# Altium footprint library Connector.PcbLib: 116 footprints (part 6 of 8)
Each footprint in its own frame and in the unit in brackets; x right, y up, seen from the top. Pads: shape width x height; smd on the part's side, far side on the other; paste and mask are expansions set on the pad; w line width, h text height; cw(c..) or ccw(c..) is an arc to the next point about the centre after c.
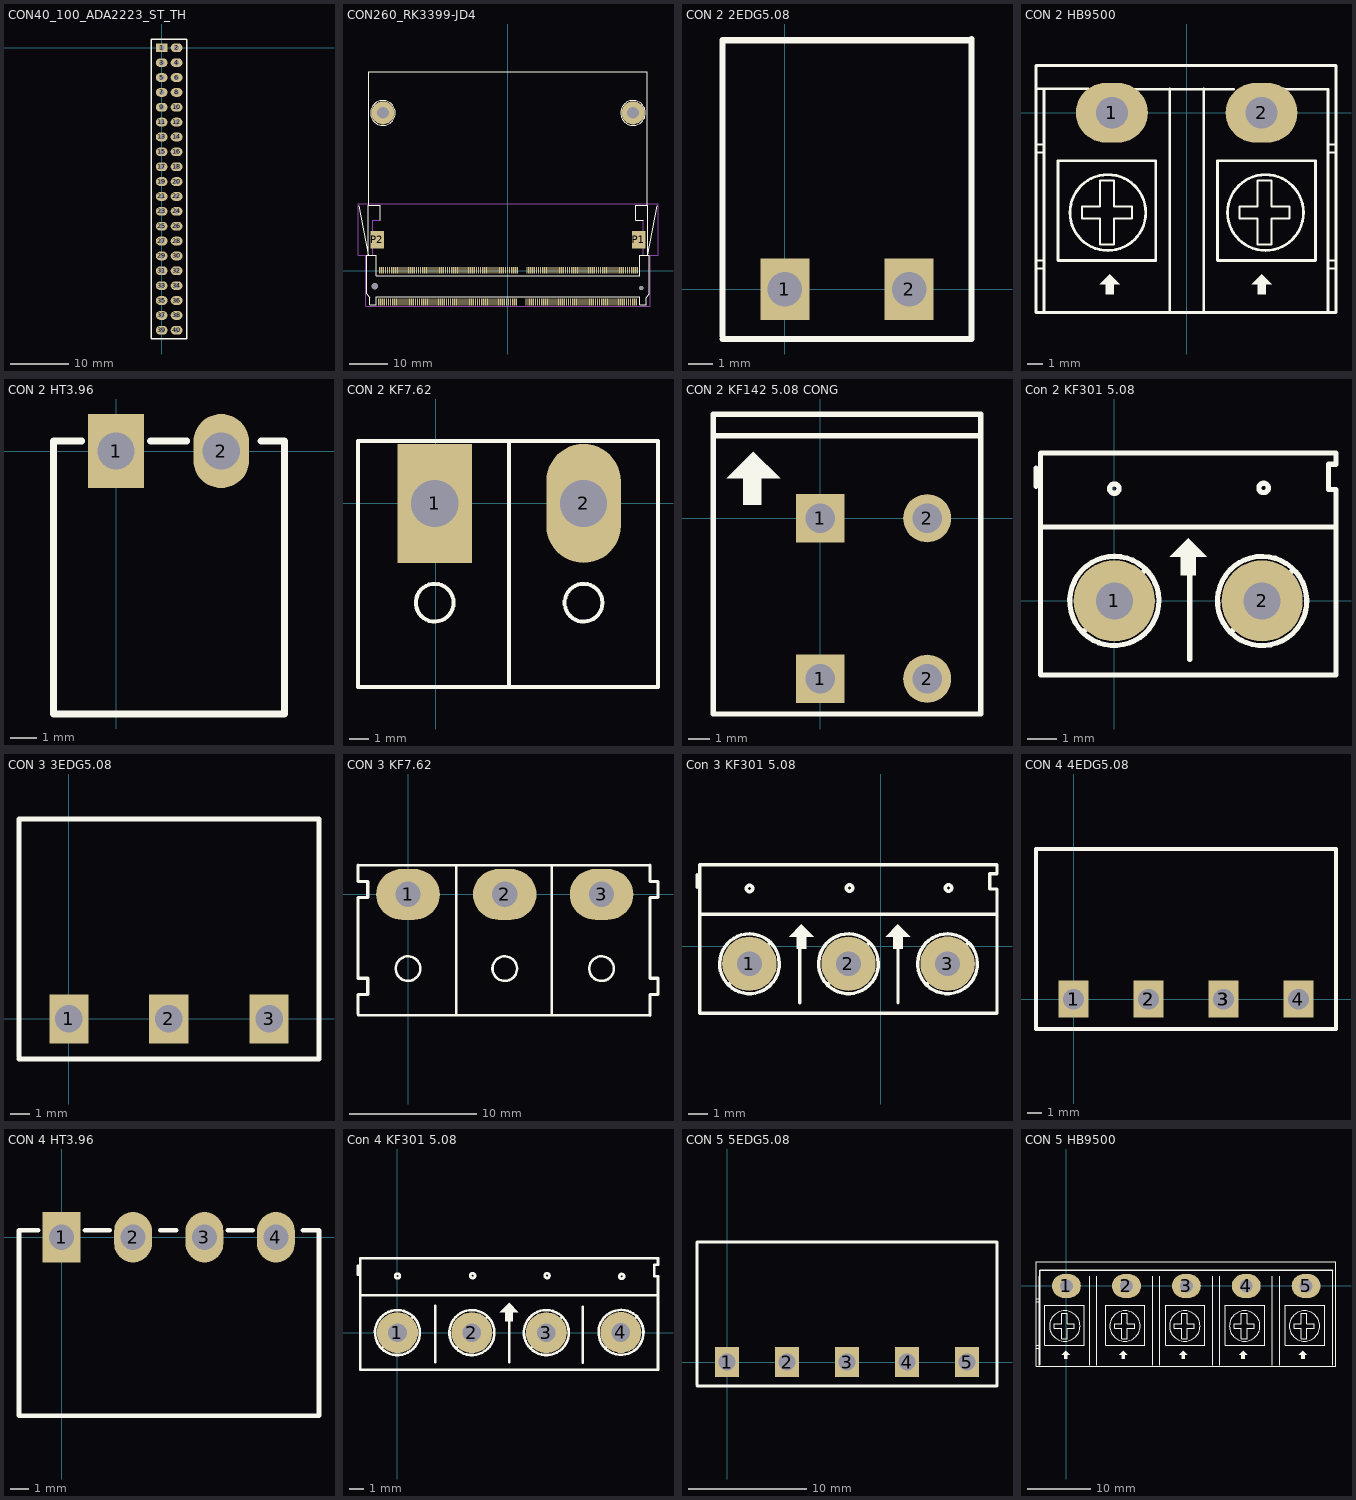
[diagram p5: the footprints below, top view; thin cyan lines are the x and y axes]

## CON40_100_ADA2223_ST_TH [mm]
height 11.1
pads (40):
  rect 2x1.5 hole 0.9: 1(0,0)
  oval 2x1.5 hole 0.9: 2(2.54,0) 3(0,-2.54) 4(2.54,-2.54) 5(0,-5.08) 6(2.54,-5.08) 7(0,-7.62) 8(2.54,-7.62) 9(0,-10.16) 10(2.54,-10.16) 11(0,-12.7) 12(2.54,-12.7) 13(0,-15.24) 14(2.54,-15.24) 15(0,-17.78) 16(2.54,-17.78) 17(0,-20.32) 18(2.54,-20.32) 19(0,-22.86) 20(2.54,-22.86) 21(0,-25.4) 22(2.54,-25.4) 23(0,-27.94) 24(2.54,-27.94) 25(0,-30.48) 26(2.54,-30.48) 27(0,-33.02) 28(2.54,-33.02) 29(0,-35.56) 30(2.54,-35.56) 31(0,-38.1) 32(2.54,-38.1) 33(0,-40.64) 34(2.54,-40.64) 35(0,-43.18) 36(2.54,-43.18) 37(0,-45.72) 38(2.54,-45.72) 39(0,-48.26) 40(2.54,-48.26)
Top Overlay:
  lines w0.254: -1.75,-49.75 -1.75,1.5 4.25,1.5 4.25,-49.75 -1.75,-49.75
3D body "User Library-Header 2x20 2_54mm.step": height 2.01, standoff -9.09, extent -1.25,-49.55 3.75,1.55

## CON260_RK3399-JD4 [mm] "DDR4-260Pin"
height 9.2
pads (266):
  rect 0.3x1.75 smd: 1(-33.375,-8.05) 2(-33.125,0.15) 3(-32.875,-8.05) 4(-32.625,0.15) 5(-32.375,-8.05) 6(-32.125,0.15) 7(-31.875,-8.05) 8(-31.625,0.15) 9(-31.375,-8.05) 10(-31.125,0.15) 11(-30.875,-8.05) 12(-30.625,0.15) 13(-30.375,-8.05) 14(-30.125,0.15) 15(-29.875,-8.05) 16(-29.625,0.15) 17(-29.375,-8.05) 18(-29.125,0.15) 19(-28.875,-8.05) 20(-28.625,0.15) 21(-28.375,-8.05) 22(-28.125,0.15) 23(-27.875,-8.05) 24(-27.625,0.15) 25(-27.375,-8.05) 26(-27.125,0.15) 27(-26.875,-8.05) 28(-26.625,0.15) 29(-26.375,-8.05) 30(-26.125,0.15) 31(-25.875,-8.05) 32(-25.625,0.15) 33(-25.375,-8.05) 34(-25.125,0.15) 35(-24.875,-8.05) 36(-24.625,0.15) 37(-24.375,-8.05) 38(-24.125,0.15) 39(-23.875,-8.05) 40(-23.625,0.15) 41(-23.375,-8.05) 42(-23.125,0.15) 43(-22.875,-8.05) 44(-22.625,0.15) 45(-22.375,-8.05) 46(-22.125,0.15) 47(-21.875,-8.05) 48(-21.625,0.15) 49(-21.375,-8.05) 50(-21.125,0.15) 51(-20.875,-8.05) 52(-20.625,0.15) 53(-20.375,-8.05) 54(-20.125,0.15) 55(-19.875,-8.05) 56(-19.625,0.15) 57(-19.375,-8.05) 58(-19.125,0.15) 59(-18.875,-8.05) 60(-18.625,0.15) 61(-18.375,-8.05) 62(-18.125,0.15) 63(-17.875,-8.05) 64(-17.625,0.15) 65(-17.375,-8.05) 66(-17.125,0.15) 67(-16.875,-8.05) 68(-16.625,0.15) 69(-16.375,-8.05) 70(-16.125,0.15) 71(-15.875,-8.05) 72(-15.625,0.15) 73(-15.375,-8.05) 74(-15.125,0.15) 75(-14.875,-8.05) 76(-14.625,0.15) 77(-14.375,-8.05) 78(-14.125,0.15) 79(-13.875,-8.05) 80(-13.625,0.15) 81(-13.375,-8.05) 82(-13.125,0.15) 83(-12.875,-8.05) 84(-12.625,0.15) 85(-12.375,-8.05) 86(-12.125,0.15) 87(-11.875,-8.05) 88(-11.625,0.15) 89(-11.375,-8.05) 90(-11.125,0.15) 91(-10.875,-8.05) 92(-10.625,0.15) 93(-10.375,-8.05) 94(-10.125,0.15) 95(-9.875,-8.05) 96(-9.625,0.15) 97(-9.375,-8.05) 98(-9.125,0.15) 99(-8.875,-8.05) 100(-8.625,0.15) 101(-8.375,-8.05) 102(-8.125,0.15) 103(-7.875,-8.05) 104(-7.625,0.15) 105(-7.375,-8.05) 106(-7.125,0.15) 107(-6.875,-8.05) 108(-6.625,0.15) 109(-6.375,-8.05) 110(-6.125,0.15) 111(-5.875,-8.05) 112(-5.625,0.15) 113(-5.375,-8.05) 114(-5.125,0.15) 115(-4.875,-8.05) 116(-4.625,0.15) 117(-4.375,-8.05) 118(-4.125,0.15) 119(-3.875,-8.05) 120(-3.625,0.15) 121(-3.375,-8.05) 122(-3.125,0.15) 123(-2.875,-8.05) 124(-2.625,0.15) 125(-2.375,-8.05) 126(-2.125,0.15) 127(-1.875,-8.05) 128(-1.625,0.15) 129(-1.375,-8.05) 130(-1.125,0.15) 131(-0.875,-8.05) 132(-0.625,0.15) 133(-0.375,-8.05) 134(-0.125,0.15) 135(0.125,-8.05) 136(0.375,0.15) 137(0.625,-8.05) 138(0.875,0.15) 139(1.125,-8.05) 140(1.375,0.15) 141(1.625,-8.05) 142(1.875,0.15) 143(2.125,-8.05) 144(2.375,0.15) 145(4.625,-8.05) 146(4.875,0.15) 147(5.125,-8.05) 148(5.375,0.15) 149(5.625,-8.05) 150(5.875,0.15) 151(6.125,-8.05) 152(6.375,0.15) 153(6.625,-8.05) 154(6.875,0.15) 155(7.125,-8.05) 156(7.375,0.15) 157(7.625,-8.05) 158(7.875,0.15) 159(8.125,-8.05) 160(8.375,0.15) 161(8.625,-8.05) 162(8.875,0.15) 163(9.125,-8.05) 164(9.375,0.15) 165(9.625,-8.05) 166(9.875,0.15) 167(10.125,-8.05) 168(10.375,0.15) 169(10.625,-8.05) 170(10.875,0.15) 171(11.125,-8.05) 172(11.375,0.15) 173(11.625,-8.05) 174(11.875,0.15) 175(12.125,-8.05) 176(12.375,0.15) 177(12.625,-8.05) 178(12.875,0.15) 179(13.125,-8.05) 180(13.375,0.15) 181(13.625,-8.05) 182(13.875,0.15) 183(14.125,-8.05) 184(14.375,0.15) 185(14.625,-8.05) 186(14.875,0.15) 187(15.125,-8.05) 188(15.375,0.15) 189(15.625,-8.05) 190(15.875,0.15) 191(16.125,-8.05) 192(16.375,0.15) 193(16.625,-8.05) 194(16.875,0.15) 195(17.125,-8.05) 196(17.375,0.15) 197(17.625,-8.05) 198(17.875,0.15) 199(18.125,-8.05) 200(18.375,0.15) 201(18.625,-8.05) 202(18.875,0.15) 203(19.125,-8.05) 204(19.375,0.15) 205(19.625,-8.05) 206(19.875,0.15) 207(20.125,-8.05) 208(20.375,0.15) 209(20.625,-8.05) 210(20.875,0.15) 211(21.125,-8.05) 212(21.375,0.15) 213(21.625,-8.05) 214(21.875,0.15) 215(22.125,-8.05) 216(22.375,0.15) 217(22.625,-8.05) 218(22.875,0.15) 219(23.125,-8.05) 220(23.375,0.15) 221(23.625,-8.05) 222(23.875,0.15) 223(24.125,-8.05) 224(24.375,0.15) 225(24.625,-8.05) 226(24.875,0.15) 227(25.125,-8.05) 228(25.375,0.15) 229(25.625,-8.05) 230(25.875,0.15) 231(26.125,-8.05) 232(26.375,0.15) 233(26.625,-8.05) 234(26.875,0.15) 235(27.125,-8.05) 236(27.375,0.15) 237(27.625,-8.05) 238(27.875,0.15) 239(28.125,-8.05) 240(28.375,0.15) 241(28.625,-8.05) 242(28.875,0.15) 243(29.125,-8.05) 244(29.375,0.15) 245(29.625,-8.05) 246(29.875,0.15) 247(30.125,-8.05) 248(30.375,0.15) 249(30.625,-8.05) 250(30.875,0.15) 251(31.125,-8.05) 252(31.375,0.15) 253(31.625,-8.05) 254(31.875,0.15) 255(32.125,-8.05) 256(32.375,0.15) 257(32.625,-8.05) 258(32.875,0.15) 259(33.125,-8.05) 260(33.375,0.15)
  round 1.6 hole 1.6 unplated: None(-34.4,-3.95)
  round 1.1 hole 1.1 unplated: None(34.4,-4.45)
  rect 3.5x4.6 smd: P1(33.8,8.05) P2(-33.8,8.05)
  round 6 hole 3: ""(-32.3,40.8) ""(32.3,40.8)
Top Overlay:
  circle w0.254: c32.3,40.8 r3.2
  circle w0.254: c-32.3,40.8 r3.2
  lines w0.2: -38.5,16.8 -36.05,4.05 ; -33.05,13.05 -33.05,16.98 -36.05,16.98 -36.05,4.05 ; 35,13.05 33.05,13.05 33.05,16.98 36.05,16.98 36.05,4.05 ; 38.5,16.8 36.05,4.05 ; -36.05,4.05 -36.55,4.05 -36.55,-5.95 -35.7,-6.95 -35.7,-8.72 -34,-8.72 -34,-6.65 34,-6.65 34,-8.72 35.7,-8.72 35.7,-6.95 36.55,-5.95 36.55,4.05 36.05,4.05 ; -36.05,4.05 -34,4.05 -34,-1.25 34,-1.25 34,4.05 36.05,4.05
  lines w0.254: -36,16.98 -36,20 -36,29.4 -36,39.5 -36,51.5 -31.1,51.5 -21.9,51.5 2.6,51.5 11.4,51.5 19.6,51.5 28,51.5 36,51.5 36,48 36,42.4 36,36.8 36,31.8 36,26 36,18.2 36,17.08
Mechanical 4:
  lines w0.2: -35,13.05 -33,13.05 -35,13.05 ; -35,13.05 -35,4.05 -35,13.05 ; 35,4.05 35,13.05 35,4.05
Mechanical 16:
  lines w0.05: -38.75,4.05 -38.75,17.3 38.75,17.3 38.75,4.05 36.8,4.05 36.8,-9.2 -36.8,-9.2 -36.8,4.05 -38.75,4.05
3D body: height 7.62, standoff 0, extent 30.7,39.203 33.9,42.397
3D body "User Library-00003870_TEcon_2309409-1.STEP": height 5.32, standoff -0.23, extent -36.5,-8.9 36.5,16.95
3D body "core-3399-jd4_3d_model.stp": height 6.1, standoff 1.8, extent -34.8,-4.2 34.8,50.804
3D body: height 7.62, standoff 0, extent -33.9,39.203 -30.7,42.397

## CON 2 2EDG5.08 [mm]
pads (2):
  rect 2x2.5 hole 1.4: 1(0,0) 2(5.08,0)
Top Overlay:
  lines w0.254: -2.54,-2.032 7.62,-2.032 7.62,10.211 ; -2.54,-1.905 -2.54,10.173 ; -2.54,10.16 7.62,10.16
3D body "User Library-BigHeader 5EHDR_1P.step": height 3.15, standoff -9.32, extent -2.5,-1.75 2.5,10.25
3D body "User Library-BigHeader 5EHDR_1P.step": height 3.15, standoff -9.32, extent 2.58,-1.75 7.58,10.25

## CON 2 HB9500 [mil] "Header 2: 300V-20A, 2 pin, hight 300mil, Pin to Pin 400, Colour Green"
height 300
pads (2):
  oval 180x150 hole 80: 1(-187.5,0) 2(187.5,0)
Top Overlay:
  circle w7: c-197.5,-250 r95
  circle w7: c197.5,-250 r95
  region: -192.5,-405 -217.5,-430 -202.5,-430 -202.5,-455 -182.5,-455 -182.5,-430 -167.5,-430
  region: 187.5,-405 162.5,-430 177.5,-430 177.5,-455 197.5,-455 197.5,-430 212.5,-430
  lines w5: -375,-390 -360,-390 ; -375,-370 -360,-370 ; -375,-100 -360,-100 ; -375,-80 -360,-80 ; 355,-390 370,-390 ; 355,-370 370,-370 ; 355,-100 370,-100 ; 355,-80 370,-80 ; -262.5,-265 -217.5,-265 -217.5,-330 -182.5,-330 -182.5,-265 -137.5,-265 -137.5,-235 -182.5,-235 -182.5,-170 -217.5,-170 -217.5,-235 -262.5,-235 -262.5,-265 ; 132.5,-265 177.5,-265 177.5,-330 212.5,-330 212.5,-265 257.5,-265 257.5,-235 212.5,-235 212.5,-170 177.5,-170 177.5,-235 132.5,-235 132.5,-265
  lines w7: -377.5,60 -247.5,60 ; -357.5,-495 -357.5,60 ; -131.89,59.06 118.11,59.06 ; -42.5,-495 -42.5,60 ; 42.5,-495 42.5,60 ; 242.5,60 242.5,59.13 354.33,59.04 354.33,-495 ; -377.5,-500 374.02,-500 374.02,118.11 -377.5,118.11 -377.5,-500 ; -322.5,-370 -322.5,-120 -77.5,-120 -77.5,-370 -322.5,-370 ; 77.5,-370 77.5,-120 322.5,-120 322.5,-370 77.5,-370
3D body "CON 2 HB.stp": height 500.6, standoff -199.4, extent -366,-485 345,115

## CON 2 HT3.96 [mm]
pads (2):
  rect 2.1x2.794 hole 1.4: 1(0,0)
  oval 2.1x2.794 hole 1.4: 2(3.96,0)
Top Overlay:
  lines w0.254: -1.295,0.381 -2.286,0.381 -2.362,0.381 -2.362,-9.906 6.35,-9.906 6.35,0.381 5.461,0.381 ; 1.295,0.381 2.667,0.381
3D body "Con 2 KF396.stp": height 7.02, standoff 0.02, extent -1.968,-10 6.032,0

## CON 2 KF7.62 [mil]
pads (2):
  rect 150x240 hole 95: 1(-2,0)
  oval 150x240 hole 95: 2(298,0)
Top Overlay:
  circle w8: c298,-200 r38.08
  circle w8: c-2,-200 r38.08
  lines w7.87: 148,-368.06 148,126 ; -156.54,-370 448,-370 448,126 -156.54,126 -156.54,-339.27 -156.54,-370
3D body "Con 2 KF7.62.step": height 492.61, standoff -245.58, extent -152,-370 448,122.12

## CON 2 KF142 5.08 CONG [mil]
pads (4):
  rect 90x90 hole 55.12: 1(0,-300.39) 1(0,0)
  round 90 hole 55.12: 2(200,-300.39) 2(200,0)
Top Overlay:
  rectangle: -145,24.61 -110,74.61
  region: -175,74.61 -125,124.61 -75,74.61
  lines w10: -200,64.61 -200,154.61 ; -200,65.61 -200,-366.39 300,-366.39 ; 300,-365 300,195 ; 300,154.61 -200,154.61 ; 300,194.61 -200,194.61 -200,154.61
3D body "Terminal Blocks Fixed SPRING 2PIN CONG.stp": height 520.69, standoff -137.32, extent -205,-375.35 293.43,185.35

## Con 2 KF301 5.08 [mil]
pads (2):
  round 110 hole 50: 1(0,0) 2(200,0)
Top Overlay:
  circle w7: c202,153 r6.4
  circle w7: c0,152 r6.4
  region: 100,85 75,60 90,60 90,35 110,35 110,60 125,60
  lines w7: -106,155 -106,180 ; -100,100 300,100 ; -42,-42 43,43 ; 39.04,46.05 ccw(c0,0) 45.18,40.05 ; 102,-79 102,72 ; 158,-42 242.5,42.5 ; 239.76,45.44 ccw(c200,0) 245.18,40.05 ; 290,182 290,151 300,151 300,-100 -100,-100 -100,50 -100,200 300,200 300,185 290,185 ; 300,-79 300,40
3D body "Con 2 KF301.stp": height 335.25, standoff -137.19, extent -45,-97.4 255,190

## CON 3 3EDG5.08 [mm]
pads (3):
  rect 2x2.5 hole 1.4: 1(0,0) 2(5.08,0) 3(10.173,0)
Top Overlay:
  lines w0.254: -2.54,-2.032 12.713,-2.032 12.713,10.16 -2.54,10.16 -2.54,-1.905
3D body "User Library-BigHeader 5EHDR_1P.step": height 3.15, standoff -9.32, extent -2.5,-1.75 2.5,10.25
3D body "User Library-BigHeader 5EHDR_1P.step": height 3.15, standoff -9.32, extent 2.593,-1.75 7.593,10.25
3D body "User Library-BigHeader 5EHDR_1P.step": height 3.15, standoff -9.32, extent 7.673,-1.75 12.673,10.25

## CON 3 KF7.62 [mm]
pads (3):
  oval 5x4 hole 2: 1(0,0) 2(7.62,0) 3(15.24,0)
Top Overlay:
  circle w0.203: c0,-5.842 r0.967
  circle w0.203: c7.62,-5.842 r0.967
  circle w0.203: c15.24,-5.842 r0.967
  lines w0.2: -3.937,2.286 11.687,2.286 19.05,2.286 ; -3.925,-9.38 -3.925,-9.525 19.05,-9.525 ; 3.81,-9.4 3.81,2.286 ; 11.303,2.159 11.31,-9.4
  lines w0.254: -3.937,-9.398 -3.937,-7.874 -3.175,-7.874 -3.175,-6.604 -3.937,-6.604 -3.937,-0.254 -3.175,-0.254 -3.175,1.016 -3.937,1.016 -3.937,2.286 ; 19.05,-9.525 19.05,-7.874 19.685,-7.874 19.685,-6.604 19.05,-6.604 19.05,-0.254 19.685,-0.254 19.685,1.016 19.05,1.016 19.05,2.286

## Con 3 KF301 5.08 [mil]
pads (3):
  round 110 hole 50: 1(-265,-35) 2(-65,-35) 3(135.06,-34.94)
Top Overlay:
  circle w7: c137,118 r6.4
  circle w7: c-265,117 r6.4
  circle w7: c-63,118 r6.4
  region: -160,45 -185,20 -170,20 -170,-5 -150,-5 -150,20 -135,20
  region: 35,45 10,20 25,20 25,-5 45,-5 45,20 60,20
  lines w7: -371,120 -371,145 ; -365,65 230,65 ; -307,-77 -222,8 ; -225.96,11.05 ccw(c-265,-35) -219.82,5.05 ; -163,-114 -163,37 ; -107,-77 -22.5,7.5 ; -25.24,10.44 ccw(c-65,-35) -19.82,5.05 ; 35,-114 35,5 ; 93.5,-76.5 177.5,7.5 ; 174.27,10.97 ccw(c135.06,-34.94) 180.19,5.17 ; -365,-135 235,-135 235,116 220,116 220,147 235,147 235,165 -365,165 -365,15 -365,-135

## CON 4 4EDG5.08 [mm]
pads (7):
  rect 2x2.5 hole 1.4: 1(0,0) 1(0,0) 2(5.08,0) 2(5.08,0) 3(10.16,0) 3(10.173,0) 4(15.24,0)
Top Overlay:
  lines w0.254: 12.713,-2.032 -2.54,-2.032 7.62,-2.032 17.78,-2.032 17.78,10.173 -2.527,10.173 -2.54,10.173 -2.54,-1.905 -2.54,10.16 ; 12.713,10.16 -2.54,10.16 ; 17.78,10.16 -2.54,10.16
3D body "User Library-BigHeader 5EHDR_1P.step": height 3.15, standoff -9.32, extent 12.74,-1.75 17.74,10.25
3D body "User Library-BigHeader 5EHDR_1P.step": height 3.15, standoff -9.32, extent 7.66,-1.75 12.66,10.25
3D body "User Library-BigHeader 5EHDR_1P.step": height 3.15, standoff -9.32, extent 2.58,-1.75 7.58,10.25
3D body "User Library-BigHeader 5EHDR_1P.step": height 3.15, standoff -9.32, extent -2.5,-1.75 2.5,10.25

## CON 4 HT3.96 [mm]
pads (4):
  rect 2.1x2.794 hole 1.4: 1(0,0)
  oval 2.1x2.794 hole 1.4: 2(3.96,0) 3(7.92,0) 4(11.88,0)
Top Overlay:
  lines w0.254: -1.295,0.381 -2.286,0.381 -2.362,0.381 -2.362,-9.906 6.35,-9.906 ; 1.295,0.381 2.667,0.381 ; 5.461,0.381 6.35,0.381 ; 5.558,-9.906 14.27,-9.906 14.27,0.381 13.381,0.381 ; 5.558,0.381 5.634,0.381 ; 9.215,0.381 10.587,0.381
3D body "Con 2 KF396.stp": height 7.02, standoff 0.02, extent 5.952,-10 13.952,0
3D body "Con 2 KF396.stp": height 7.02, standoff 0.02, extent -1.968,-10 6.032,0

## Con 4 KF301 5.08 [mil]
pads (4):
  round 110 hole 50: 1(0,0) 2(200,0) 3(400.06,0.06) 4(600.39,0.39)
Top Overlay:
  circle w7: c602.6,151 r6.4
  circle w7: c402,153 r6.4
  circle w7: c0,152 r6.4
  circle w7: c202,153 r6.4
  region: 300,80 275,55 290,55 290,30 310,30 310,55 325,55
  lines w7: -106,155 -106,180 ; -100,100 700,100 ; -42,-42 43,43 ; 39.04,46.05 ccw(c0,0) 45.18,40.05 ; 102,-79 102,72 ; 158,-42 242.5,42.5 ; 239.76,45.44 ccw(c200,0) 245.18,40.05 ; 300,-79 300,40 ; 358.5,-41.5 442.5,42.5 ; 439.27,45.97 ccw(c400.06,0.06) 445.19,40.17 ; 497.97,-81.03 497.97,69.97 ; 559,-41 643.5,43.5 ; 640.16,46.18 ccw(c600.59,0.59) 646.12,40.23 ; -100,-100 700,-100 700,151 690,151 690,182 700,182 700,200 -100,200 -100,50 -100,-100
3D body "terminal_blocks_a-tb500-ta04.stp": height 496.57, standoff -145.15, extent -115.51,-156 695.51,198.33

## CON 5 5EDG5.08 [mm]
pads (5):
  rect 2x2.5 hole 1.4: 1(0,0) 2(5.08,0) 3(10.16,0) 4(15.24,0) 5(20.32,0)
Top Overlay:
  lines w0.254: -2.54,-2.032 7.62,-2.032 22.86,-2.032 22.86,10.16 ; -2.54,-1.905 -2.54,10.16 ; -2.54,10.16 22.86,10.16 ; -2.54,10.16 6.248,10.16 22.86,10.16
3D body "User Library-BigHeader 5EHDR_1P.step": height 3.15, standoff -9.32, extent -2.5,-1.75 2.5,10.25
3D body "User Library-BigHeader 5EHDR_1P.step": height 3.15, standoff -9.32, extent 2.58,-1.75 7.58,10.25
3D body "User Library-BigHeader 5EHDR_1P.step": height 3.15, standoff -9.32, extent 7.66,-1.75 12.66,10.25
3D body "User Library-BigHeader 5EHDR_1P.step": height 3.15, standoff -9.32, extent 12.74,-1.75 17.74,10.25
3D body "User Library-BigHeader 5EHDR_1P.step": height 3.15, standoff -9.32, extent 17.82,-1.75 22.82,10.25

## CON 5 HB9500 [mil]
pads (5):
  oval 180x150 hole 80: 1(0,0) 2(375,0) 3(749.02,0) 4(1123.03,0) 5(1497.05,0)
Top Overlay:
  circle w7: c1487.36,-250 r95
  circle w7: c1113.35,-250 r95
  circle w7: c739.33,-250 r95
  circle w7: c365.31,-250 r95
  circle w7: c-10,-250 r95
  region: 1477.36,-405 1452.36,-430 1467.36,-430 1467.36,-455 1487.36,-455 1487.36,-430 1502.36,-430
  region: 1103.35,-405 1078.35,-430 1093.35,-430 1093.35,-455 1113.35,-455 1113.35,-430 1128.35,-430
  region: 729.33,-405 704.33,-430 719.33,-430 719.33,-455 739.33,-455 739.33,-430 754.33,-430
  region: 355.31,-405 330.31,-430 345.31,-430 345.31,-455 365.31,-455 365.31,-430 380.31,-430
  region: -5,-405 -30,-430 -15,-430 -15,-455 5,-455 5,-430 20,-430
  lines w5: -187.5,-390 -172.5,-390 ; -187.5,-370 -172.5,-370 ; -187.5,-100 -172.5,-100 ; -187.5,-80 -172.5,-80 ; -75,-265 -75,-235 -30,-235 -30,-170 5,-170 5,-235 50,-235 50,-265 5,-265 5,-330 -30,-330 -30,-265 -75,-265 ; 300.31,-265 345.31,-265 345.31,-330 380.31,-330 380.31,-265 425.31,-265 425.31,-235 380.31,-235 380.31,-170 345.31,-170 345.31,-235 300.31,-235 300.31,-265 ; 674.33,-265 719.33,-265 719.33,-330 754.33,-330 754.33,-265 799.33,-265 799.33,-235 754.33,-235 754.33,-170 719.33,-170 719.33,-235 674.33,-235 674.33,-265 ; 1048.35,-265 1093.35,-265 1093.35,-330 1128.35,-330 1128.35,-265 1173.35,-265 1173.35,-235 1128.35,-235 1128.35,-170 1093.35,-170 1093.35,-235 1048.35,-235 1048.35,-265 ; 1422.36,-265 1467.36,-265 1467.36,-330 1502.36,-330 1502.36,-265 1547.36,-265 1547.36,-235 1502.36,-235 1502.36,-170 1467.36,-170 1467.36,-235 1422.36,-235 1422.36,-265
  lines w7: -170,-495 -170,60 ; 145,-495 145,60 ; 190.63,-495 190.63,60 ; 538.7,-495 538.7,60 ; 584.33,-495 584.33,60 ; 912.72,-495 912.72,60 ; 958.35,-495 958.35,60 ; 1286.73,-495 1286.73,60 ; 1332.36,-495 1332.36,60 ; 1662.05,-495 1662.05,97.49 ; -190,-500 -190,150 1683.56,150 1683.56,-500 -190,-500 ; -135,-370 110,-370 110,-120 -135,-120 -135,-370 ; 245.31,-370 245.31,-120 490.31,-120 490.31,-370 245.31,-370 ; 619.33,-370 619.33,-120 864.33,-120 864.33,-370 619.33,-370 ; 993.35,-370 993.35,-120 1238.35,-120 1238.35,-370 993.35,-370 ; 1367.36,-370 1367.36,-120 1612.36,-120 1612.36,-370 1367.36,-370
  lines w10: -166.83,-492.13 -166.83,98.43 1663.88,98.43